# EAGLE library part PIC18F14K50-I_SS (library SamacSys_Parts)
PIC,16KB Flash,15 I/O,10-Bit ADC,USB 2.0 Source: Datasheet <https://datasheet.datasheetarchive.com/originals/distributors/Datasheets-DGA25/1725293.pdf>
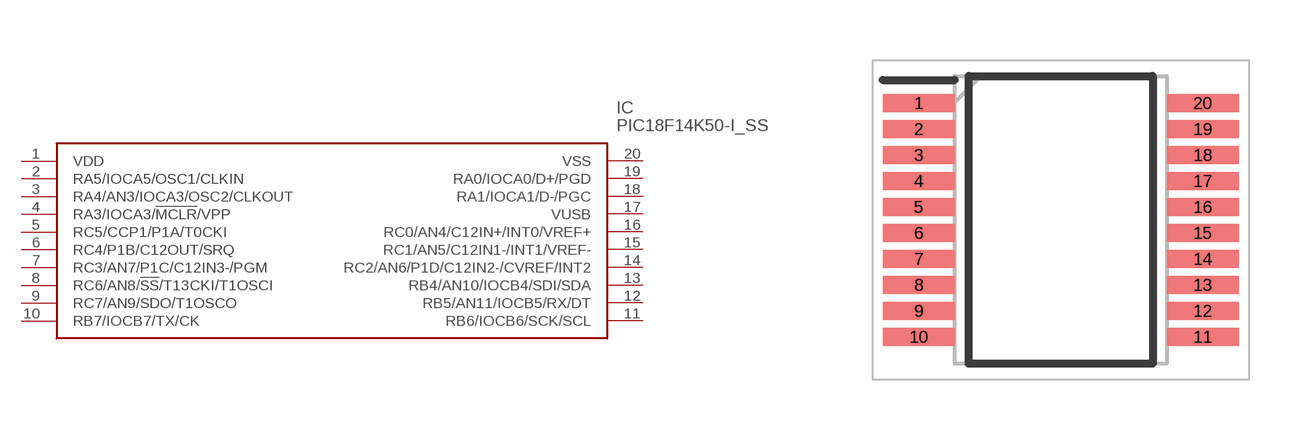
[diagram p81: symbol with the pads of SOP65P780X200-20N; footprint SOP65P780X200-20N]

Designator prefix IC

## PIC18F14K50-I_SS (DESCRIPTION: PIC,16KB Flash,15 I/O,10-Bit ADC,USB 2.0; HEIGHT: 2mm; MANUFACTURER_NAME: Microchip; MANUFACTURER_PART_NUMBER: PIC18F14K50-I/SS; MOUSER_PART_NUMBER: 579-PIC18F14K50-I/SS; MOUSER_PRICE-STOCK: https://www.mouser.co.uk/ProductDetail/Microchip-Technology/PIC18F14K50-I-SS?qs=hH%252BOa0VZEiCaC1VzkV9g%2FA%3D%3D)  [SOP65P780X200-20N]
1  VDD
2  RA5/IOCA5/OSC1/CLKIN
3  RA4/AN3/IOCA3/OSC2/CLKOUT
4  RA3/IOCA3/!MCLR!/VPP
5  RC5/CCP1/P1A/T0CKI
6  RC4/P1B/C12OUT/SRQ
7  RC3/AN7/P1C/C12IN3-/PGM
8  RC6/AN8/!SS!/T13CKI/T1OSCI
9  RC7/AN9/SDO/T1OSCO
10  RB7/IOCB7/TX/CK
11  RB6/IOCB6/SCK/SCL
12  RB5/AN11/IOCB5/RX/DT
13  RB4/AN10/IOCB4/SDI/SDA
14  RC2/AN6/P1D/C12IN2-/CVREF/INT2
15  RC1/AN5/C12IN1-/INT1/VREF-
16  RC0/AN4/C12IN+/INT0/VREF+
17  VUSB
18  RA1/IOCA1/D-/PGC
19  RA0/IOCA0/D+/PGD
20  VSS

## Footprint SOP65P780X200-20N (pad centres in mm)
(SS)20-lead(SSOP)
smd 1.8 x 0.45: 1 -3.55,2.925; 2 -3.55,2.275; 3 -3.55,1.625; 4 -3.55,0.975; 5 -3.55,0.325; 6 -3.55,-0.325; 7 -3.55,-0.975; 8 -3.55,-1.625; 9 -3.55,-2.275; 10 -3.55,-2.925; 11 3.55,-2.925; 12 3.55,-2.275; 13 3.55,-1.625; 14 3.55,-0.975; 15 3.55,-0.325; 16 3.55,0.325; 17 3.55,0.975; 18 3.55,1.625; 19 3.55,2.275; 20 3.55,2.925